# Altium footprint library PcbLib1.PcbLib: 264 footprints (part 6 of 17)
Each footprint in its own frame and in the unit in brackets; x right, y up, seen from the top. Pads: shape width x height; smd on the part's side, far side on the other; paste and mask are expansions set on the pad; w line width, h text height; cw(c..) or ccw(c..) is an arc to the next point about the centre after c.
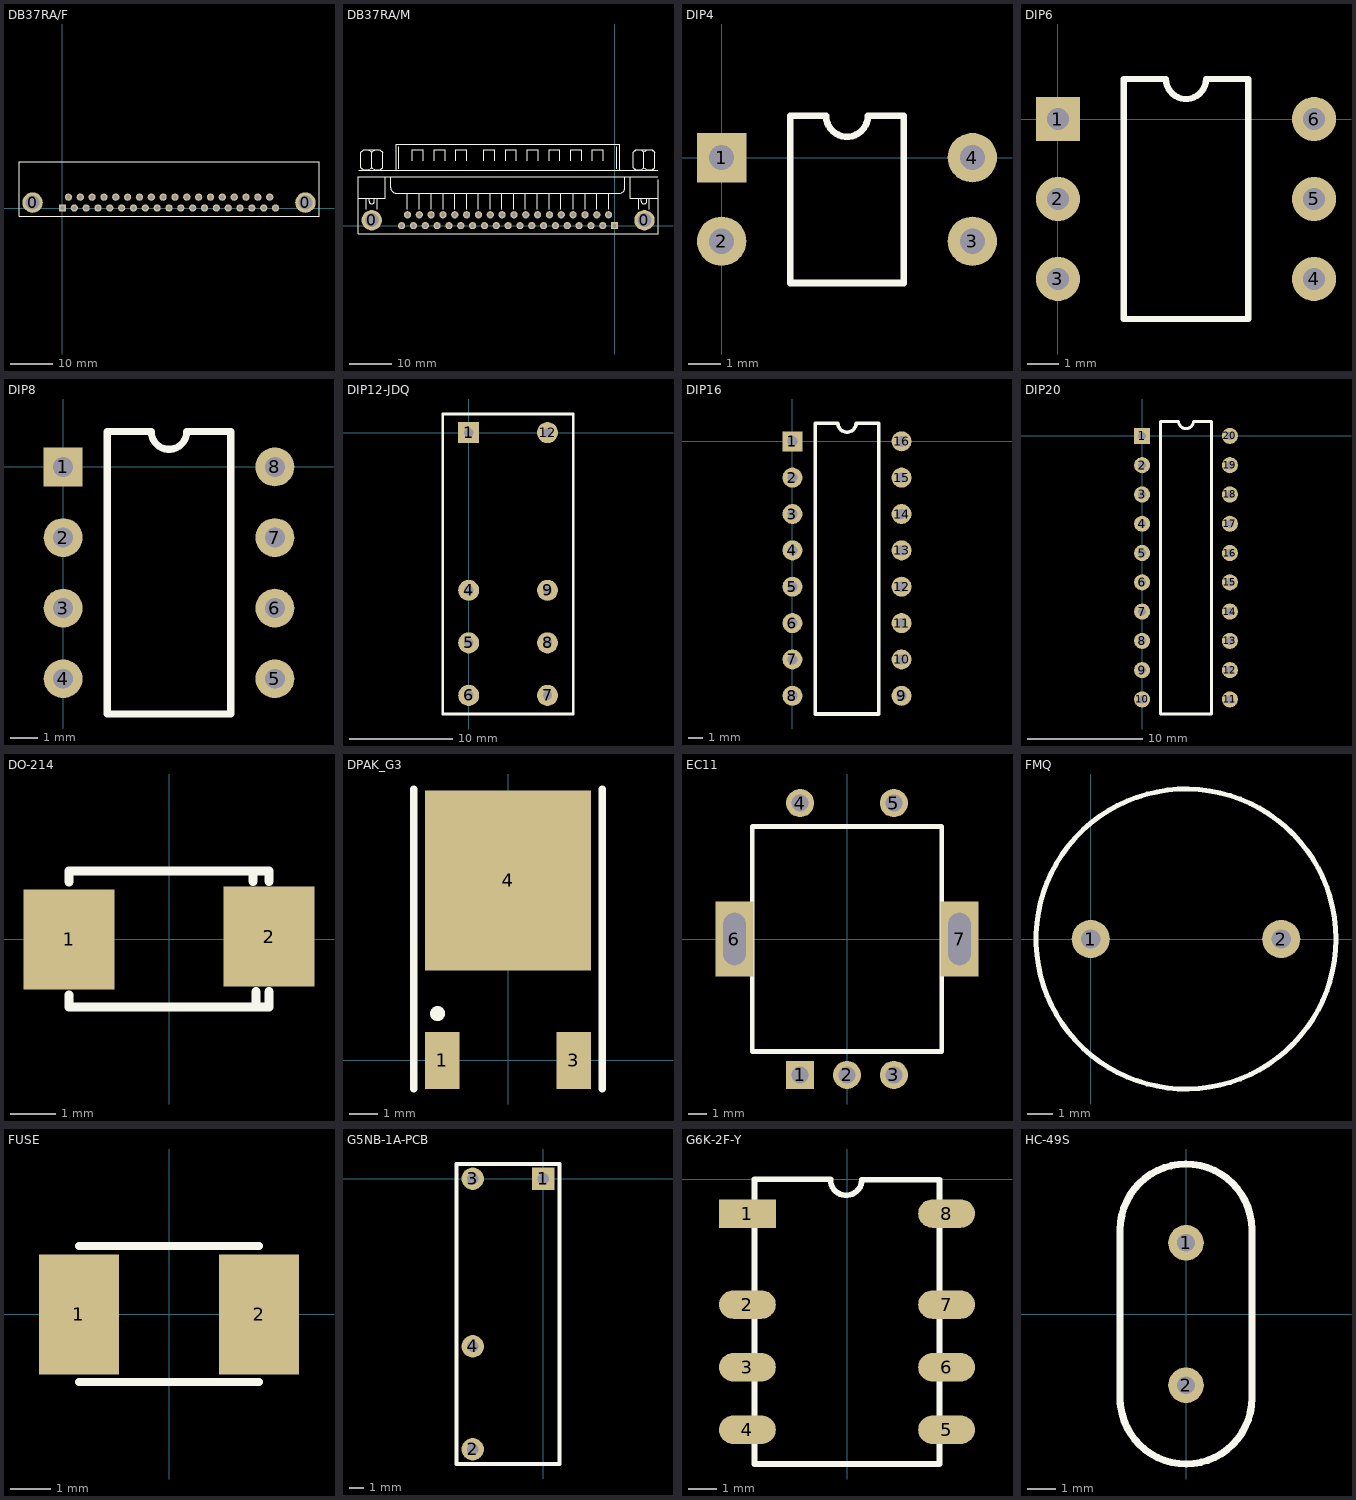
[diagram p5: the footprints below, top view; thin cyan lines are the x and y axes]

## DB37RA/F [mm]
pads (39):
  round 4.76 hole 3.26: 0(-6.985,1.27) 0(56.82,1.27)
  rect 1.69x1.69 hole 1: 1(0,0)
  round 1.69 hole 1: 2(2.769,0) 3(5.537,0) 4(8.306,0) 5(11.074,0) 6(13.843,0) 7(16.612,0) 8(19.38,0) 9(22.149,0) 10(24.917,0) 11(27.686,0) 12(30.455,0) 13(33.223,0) 14(35.992,0) 15(38.76,0) 16(41.529,0) 17(44.298,0) 18(47.066,0) 19(49.835,0) 20(1.397,2.54) 21(4.166,2.54) 22(6.934,2.54) 23(9.703,2.54) 24(12.471,2.54) 25(15.24,2.54) 26(18.009,2.54) 27(20.777,2.54) 28(23.546,2.54) 29(26.314,2.54) 30(29.083,2.54) 31(31.852,2.54) 32(34.62,2.54) 33(37.389,2.54) 34(40.157,2.54) 35(42.926,2.54) 36(45.695,2.54) 37(48.463,2.54)
Top Overlay:
  lines w0.203: -10.16,-1.905 59.995,-1.905 59.995,10.795
  lines w0.254: -10.16,-1.905 -10.16,10.795 59.995,10.795

## DB37RA/M [mm]
pads (39):
  round 4.76 hole 3.26: 0(-56.82,1.27) 0(6.985,1.27)
  rect 1.69x1.69 hole 1: 1(0,0)
  round 1.69 hole 1: 2(-2.769,0) 3(-5.537,0) 4(-8.306,0) 5(-11.074,0) 6(-13.843,0) 7(-16.612,0) 8(-19.38,0) 9(-22.149,0) 10(-24.917,0) 11(-27.686,0) 12(-30.455,0) 13(-33.223,0) 14(-35.992,0) 15(-38.76,0) 16(-41.529,0) 17(-44.298,0) 18(-47.066,0) 19(-49.835,0) 20(-1.397,2.54) 21(-4.166,2.54) 22(-6.934,2.54) 23(-9.703,2.54) 24(-12.471,2.54) 25(-15.24,2.54) 26(-18.009,2.54) 27(-20.777,2.54) 28(-23.546,2.54) 29(-26.314,2.54) 30(-29.083,2.54) 31(-31.852,2.54) 32(-34.62,2.54) 33(-37.389,2.54) 34(-40.157,2.54) 35(-42.926,2.54) 36(-45.695,2.54) 37(-48.463,2.54)
Top Overlay:
  lines w0.203: -60.04,11.43 10.054,11.43 ; -59.995,6.35 -53.645,6.35 -53.645,11.43 ; -59.995,11.43 -59.995,-1.905 10.16,-1.905 ; -59.89,12.912 10.054,12.912 ; -59.362,13.544 ccw(c-58.09,14.817) -56.818,13.544 ; -59.362,17.147 cw(c-58.09,15.875) -56.818,17.147 ; -58.725,12.912 -59.36,13.547 -59.36,17.145 -58.725,17.78 -54.915,17.78 -54.28,17.145 -54.28,13.547 -54.915,12.912 ; -58.09,3.81 -58.09,6.35 ; -57.455,6.35 -57.455,5.715 ccw(c-56.82,5.715) -56.185,5.715 -56.185,6.35 ; -56.822,13.544 ccw(c-55.55,14.817) -54.278,13.544 ; -56.822,17.147 cw(c-55.55,15.875) -54.278,17.147 ; -56.82,13.547 -56.82,17.145 ; -55.55,3.81 -55.55,6.35 ; -52.375,11.43 -52.375,8.89 ccw(c-51.105,8.89) -51.105,7.62 ; -51.22,7.62 1.164,7.62 ccw(c1.164,8.89) 2.434,8.89 2.434,11.43 ; -51.105,12.912 -51.105,19.05 1.164,19.05 1.164,12.912 ; -50.47,13.335 -50.47,18.415 ; -48.475,3.81 -48.475,7.62 ; -47.295,15.24 -47.295,17.78 -44.755,17.78 -44.755,15.24 ; -45.703,3.81 -45.703,7.62 ; -42.931,3.81 -42.931,7.62 ; -42.215,15.24 -42.215,17.78 -39.675,17.78 ; -42.016,17.78 -39.675,17.78 ; -40.15,3.81 -40.15,7.62 ; -39.675,15.24 -39.675,17.78 ; -37.398,3.81 -37.398,7.62 ; -37.135,15.24 -37.135,17.78 -34.595,17.78 -34.595,15.24 ; -34.626,3.81 -34.626,7.62 ; -31.856,3.81 -31.856,7.62 ; -30.586,15.24 -30.586,17.78 -28.046,17.78 -28.046,15.24 ; -29.104,3.81 -29.104,7.62 ; -26.352,3.81 -26.352,7.62 ; -25.506,15.24 -25.506,17.78 -22.966,17.78 -22.966,15.24 ; -23.601,3.81 -23.601,7.62 ; -20.849,3.81 -20.849,7.62 ; -20.426,15.24 -20.426,17.78 -17.886,17.78 -17.886,15.24 ; -18.097,3.81 -18.097,7.62 ; -15.346,3.81 -15.346,7.62 ; -15.346,15.24 -15.346,17.78 -12.806,17.78 -12.806,15.24 ; -12.594,3.81 -12.594,7.62 ; -10.266,15.24 -10.266,17.78 -7.726,17.78 -7.726,15.24 ; -9.631,3.81 -9.631,7.62 ; -6.879,3.81 -6.879,7.62 ; -5.186,15.24 -5.186,17.78 -2.646,17.78 -2.646,15.24 ; -4.127,3.81 -4.127,7.62 ; -1.376,3.81 -1.376,7.62 ; 0.529,13.335 0.529,18.415 ; 3.704,11.43 3.704,6.35 10.054,6.35 ; 4.337,13.544 ccw(c5.609,14.817) 6.881,13.544 ; 4.337,17.147 cw(c5.609,15.875) 6.881,17.147 ; 4.974,12.912 4.339,13.547 4.339,17.145 4.974,17.78 8.784,17.78 9.419,17.145 9.419,13.547 8.784,12.912 ; 5.609,3.81 5.609,6.35 ; 6.244,6.35 6.244,5.715 ccw(c6.879,5.715) 7.514,5.715 7.514,6.35 ; 6.877,13.544 ccw(c8.149,14.817) 9.421,13.544 ; 6.877,17.147 cw(c8.149,15.875) 9.421,17.147 ; 6.879,13.547 6.879,17.145 ; 8.149,3.81 8.149,6.35
  lines w0.254: 10.16,-1.905 10.16,10.795

## DIP4 [mm]
pads (4):
  rect 1.5x1.5 hole 0.762: 1(0,0)
  round 1.5 hole 0.762: 2(0,-2.54) 3(7.62,-2.54) 4(7.62,0)
Top Overlay:
  lines w0.2: 2.085,-3.81 2.085,1.27 3.175,1.27 ccw(c3.81,1.27) 4.445,1.27 5.535,1.27 5.535,-3.81 2.085,-3.81

## DIP6 [mil]
pads (6):
  rect 55x55 hole 28: 1(0,0)
  round 55 hole 28: 2(0,-100) 3(0,-200) 4(320.08,-200) 5(320.08,-100) 6(320.08,0)
Top Overlay:
  lines w7.87: 82.09,-250 237.99,-250 237.99,50 185.04,50 cw(c160.04,50) 135.04,50 82.09,50 82.09,-250

## DIP8 [mil]
pads (8):
  rect 55x55 hole 28: 1(0,0)
  round 55 hole 28: 2(0,-100) 3(0,-200) 4(0,-300) 5(300,-300) 6(300,-200) 7(300,-100) 8(300,0)
Top Overlay:
  lines w10: 62.5,-350 62.5,50 125,50 ccw(c150,50) 175,50 237.5,50 237.5,-350 62.5,-350

## DIP12-JDQ [mil]
pads (8):
  rect 80x80 hole 35.43: 1(0,0)
  round 80 hole 35.43: 4(0,-600) 5(0,-800) 6(0,-1000) 7(300,-1000) 8(300,-800) 9(300,-600) 12(300,0)
Top Overlay:
  lines w10: -98.43,-1070.87 -98.43,70.87 397.64,70.87 397.64,-1070.87 -98.43,-1070.87

## DIP16 [mil]
pads (16):
  rect 55x55 hole 28: 1(0,0)
  round 55 hole 28: 2(0,-100) 3(0,-200) 4(0,-300) 5(0,-400) 6(0,-500) 7(0,-600) 8(0,-700) 9(300,-700) 10(300,-600) 11(300,-500) 12(300,-400) 13(300,-300) 14(300,-200) 15(300,-100) 16(300,0)
Top Overlay:
  lines w10: 62.5,-750 237.5,-750 237.5,50 175,50 cw(c150,50) 125,50 62.5,50 62.5,-750

## DIP20 [mil]
pads (20):
  rect 55x55 hole 28: 1(0,0)
  round 55 hole 28: 2(0,-100) 3(0,-200) 4(0,-300) 5(0,-400) 6(0,-500) 7(0,-600) 8(0,-700) 9(0,-800) 10(0,-900) 11(300,-900) 12(300,-800) 13(300,-700) 14(300,-600) 15(300,-500) 16(300,-400) 17(300,-300) 18(300,-200) 19(300,-100) 20(300,0)
Top Overlay:
  lines w10: 62.5,-950 62.5,50 125,50 ccw(c150,50) 175,50 237.5,50 237.5,-950 62.5,-950

## DO-214 [mm]
pads (2):
  rect 2x2.2 smd: 1(-2.2,-0.01) 2(2.2,0.05)
Top Overlay:
  lines w0.2: -2.2,-1.23 -2.2,-1.5 2.2,-1.5 2.2,-1.16 ; -2.2,1.26 -2.2,1.5 2.2,1.5 2.2,1.27 ; 1.85,1.27 1.85,1.5 ; 1.91,-1.5 1.91,-1.16

## DPAK_G3 [mm]
pads (3):
  rect 1.2x2 smd: 1(-2.3,0) 3(2.3,0)
  rect 5.8x6.3 smd: 4(0,6.3)
Top Overlay:
  circle w0.254: c-2.466,1.64 r0.136
  lines w0.254: -3.3,-1 -3.3,9.5 ; 3.3,-1 3.3,9.5

## EC11 [mm]
pads (7):
  rect 1.5x1.5 hole 0.9: 1(-2.5,-7.25)
  round 1.5 hole 0.9: 2(0,-7.25) 3(2.5,-7.25) 4(-2.5,7.25) 5(2.5,7.25)
  rect 2x4 hole 1.2 slot 2.8 at 90 deg: 6(-6,0) 7(6,0)
Top Overlay:
  lines w0.254: -5.05,-6 -5.05,6 5.05,6 5.05,-6 -5.05,-6

## FMQ [mil]
pads (2):
  round 60 hole 30: 1(0,0) 2(300,0)
Top Overlay:
  circle w7.87: c150,0 r236.22

## FUSE [mm]
pads (2):
  rect 2x3 smd: 1(-2.25,-0.01) 2(2.25,-0.01)
Top Overlay:
  lines w0.2: -2.25,-1.7 2.25,-1.7 ; -2.25,1.7 2.25,1.7

## G5NB-1A-PCB [mil]
pads (4):
  rect 60x60 hole 30: 1(0,0)
  round 60 hole 30: 2(-188.98,-724.41) 3(-188.98,0) 4(-188.98,-448.82)
Top Overlay:
  lines w10: -232.28,-763.78 43.31,-763.78 43.31,39.37 -232.28,39.37 -232.28,-763.78

## G6K-2F-Y [mm]
pads (8):
  rect 2x1 smd: 1(-3.5,-1.2)
  oval 2x1 smd: 2(-3.5,-4.4) 3(-3.5,-6.6) 4(-3.5,-8.8) 5(3.5,-8.8) 6(3.5,-6.6) 7(3.5,-4.4) 8(3.5,-1.2)
Top Overlay:
  lines w0.2: -0.58,-0.01 ccw(c-0.03,-0.01) 0.52,-0.01 3.25,-0.01 3.25,-10 -3.25,-10 -3.25,0 -0.58,0

## HC-49S [mm]
pads (2):
  round 1.27 hole 0.635: 1(0,2.54) 2(0,-2.54)
Top Overlay:
  lines w0.254: -2.35,-3.2 -2.35,3 cw(c0,3) 2.35,3.018 2.35,-3 cw(c0,-3) -2.35,-3.018